# Altium footprint library Diploma_Library.PcbLib: 2 footprints
Each footprint in its own frame and in the unit in brackets; x right, y up, seen from the top. Pads: shape width x height; smd on the part's side, far side on the other; paste and mask are expansions set on the pad; w line width, h text height; cw(c..) or ccw(c..) is an arc to the next point about the centre after c.
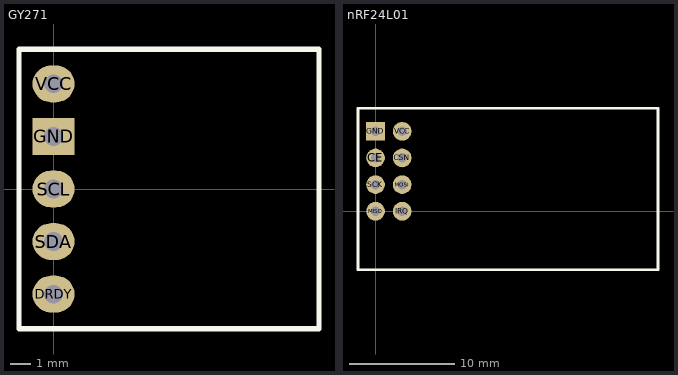
[diagram p0: the footprints below, top view; thin cyan lines are the x and y axes]

## GY271 [mil]
pads (5):
  oval 80x70 hole 35.43: DRDY(0,-200) SCL(0,0) SDA(0,-100) VCC(0,200)
  rect 80x70 hole 35.43: GND(0,100)
Top Overlay:
  lines w10: -65.75,-265.75 505.12,-265.75 505.12,265.75 -65.75,265.75 -65.75,-265.75

## nRF24L01 [mil]
pads (8):
  round 70 hole 35.43: CE(0,200) CSN(100,200) IRQ(100,0) MISO(0,0) MOSI(100,100) SCK(0,100) VCC(100,300)
  rect 70x70 hole 35.43: GND(0,300)
Top Overlay:
  lines w10: -65.75,-219.68 1060.24,-219.68 1060.24,386.61 -65.75,386.61 -65.75,-219.68